# Altium footprint library MountingHoles.PcbLib: 1 footprints
Each footprint in its own frame and in the unit in brackets; x right, y up, seen from the top. Pads: shape width x height; smd on the part's side, far side on the other; paste and mask are expansions set on the pad; w line width, h text height; cw(c..) or ccw(c..) is an arc to the next point about the centre after c.
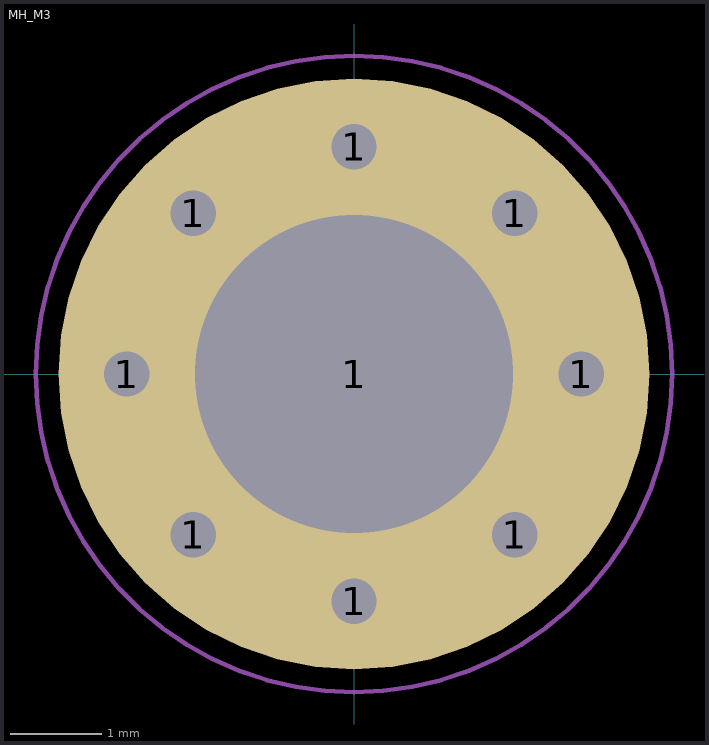
[diagram p0: the footprint, top view; thin cyan lines are the x and y axes]

## MH_M3 [mm] "Mounting Hole M3 with 8 vias"
pads (9):
  round 0.8 hole 0.5: 1(-2.5,0) 1(-1.768,-1.768) 1(-1.768,1.768) 1(0,-2.5) 1(0,2.5) 1(1.768,-1.768) 1(1.768,1.768) 1(2.5,0)
  round 6.5 hole 3.5 paste-6.5: 1(0,0)
Top Courtyard (Mech15):
  circle w0.05: c0,0 r0.25
  circle w0.05: c0,0 r3.5
  lines w0.05: -0.35,0 0.35,0 ; 0,-0.35 0,0.35
Bottom Courtyard (Mech16):
  circle w0.05: c0,0 r0.25
  circle w0.05: c0,0 r3.5
  lines w0.05: -0.35,0 0.35,0 ; 0,-0.35 0,0.35